# Altium schematic symbol library MainSchematics.SchLib: 12 symbols
Pins are listed as number, name and electrical type; pins without a type are passive.

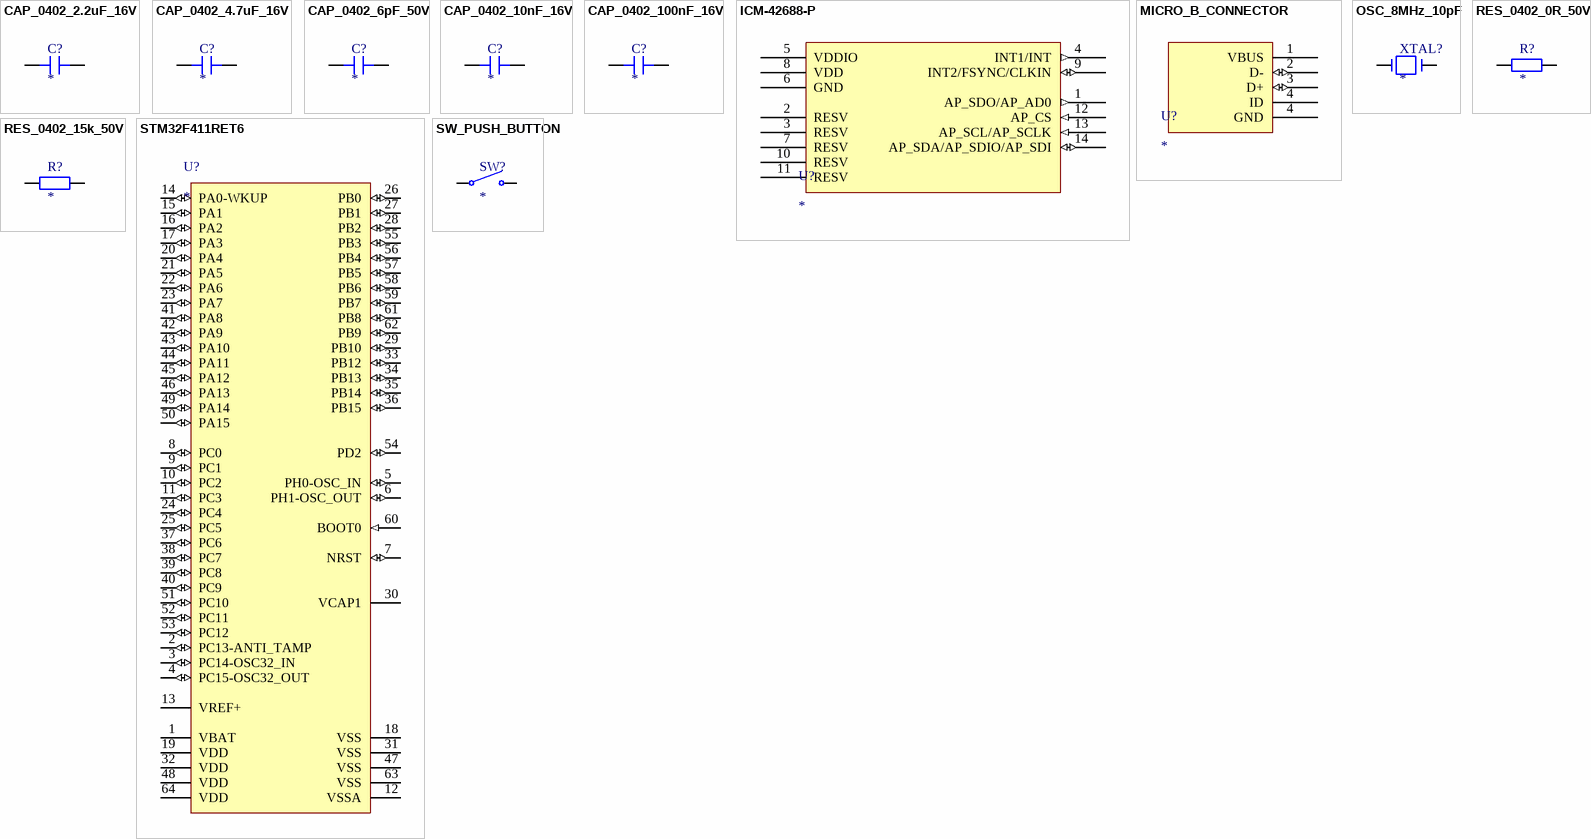
[diagram p0: symbols CAP_0402_2.2uF_16V to SW_PUSH_BUTTON]

## CAP_0402_2.2uF_16V
designator C?
pins: 1, 2

## CAP_0402_4.7uF_16V
designator C?
pins: 1, 2

## CAP_0402_6pF_50V
designator C?
pins: 1, 2

## CAP_0402_10nF_16V
designator C?
pins: 1, 2

## CAP_0402_100nF_16V
designator C?
pins: 1, 2

## ICM-42688-P
designator U?
-40℃~+85℃ 1.71V~3.6V 16bit 2KB 7.5uA IMU (accelerometer + gyroscope) SPI、I2C X,Y,Z X,Y,Z ±16g ±2000dps Motion Event Detection, Synchronization, Timestamp Support LGA-14(2.5x3) Accelerometers ROHS
pins: 1 AP_SDO/AP_AD0 (out), 2 RESV, 3 RESV, 4 INT1/INT (out), 5 VDDIO (power), 6 GND (power), 7 RESV (power), 8 VDD (power), 9 INT2/FSYNC/CLKIN (io), 10 RESV, 11 RESV, 12 AP_CS (in), 13 AP_SCL/AP_SCLK (in), 14 AP_SDA/AP_SDIO/AP_SDI (io)

## MICRO_B_CONNECTOR
designator U?
pins: 1 VBUS (power), 2 D- (io), 3 D+ (io), 4 ID (power), 4 GND (power)

## OSC_8MHz_10pF
designator XTAL?
pins: 1, 2

## RES_0402_0R_50V
designator R?
pins: 1, 2

## RES_0402_15k_50V
designator R?
pins: 1, 2

## STM32F411RET6
designator U?
-40℃~+85℃ 1.7V~3.6V 100MHz 128KB 12bit 32 Bit 50 512KB ARM Cortex-M4 Built-in FLASH LQFP-64(10x10) Microcontrollers (MCU/MPU/SOC) ROHS; Packing: Tray; Operating Frequency(F) (Processor speed) (MHz): 100; FLASH Size (Prog) (kB): 512; Supply Voltage(Vcc) min (V): 1.7; Internal RAM Size (kB): 128; I/Os (High Current): 50; ComponentLink1Description: Manufacturer URL; Package Description: LQFP64; DatasheetVersion: Rev. 6; Mounting Technology: Surface Mount; Package Reference: 64-Pin Low-profile Quad Flat Package, Body 10 x 10 mm, Pitch 0.5 mm; ComponentLink2Description: Datasheet; Core: ARM Cortex-M4; ComponentLink2URL: http://www.st.com/st-web-ui/static/active/en/resource/technical/document/datasheet/DM00115249.pdf; ComponentLink1URL: http://www.st.com/
footprint STM-LQFP64_N (QFP, 64-Leads, Body 10x10mm, Pitch 0.5mm, IPC Medium Density)
footprint STM-LQFP64_M (QFP, 64-Leads, Body 10x10mm, Pitch 0.5mm, IPC Low Density)
footprint STM-LQFP64_L (QFP, 64-Leads, Body 10x10mm, Pitch 0.5mm, IPC High Density)
pins: 1 VBAT (power), 2 PC13-ANTI_TAMP (io) "PC13-ANTI_TAMP/RTC_AMP1,RTC_OUT,RTC_TS", 3 PC14-OSC32_IN (io) "PC14/OSC32_IN", 4 PC15-OSC32_OUT (io) "PC15/OSC32_OUT", 5 PH0-OSC_IN (io) "PH0/OSC_IN", 6 PH1-OSC_OUT (io) "PH1/OSC_OUT", 7 NRST (io) "NRST/EVENTOUT", 8 PC0 (io) "PC0/EVENTOUT/ADC1_10", 9 PC1 (io) "PC1/EVENTOUT/ADC1_11", 10 PC2 (io) "PC2/SPI2_MISO,I2S2EXT_SD,EVENTOUT/ADC1_12", 11 PC3 (io) "PC3/SPI2_MOSI/I2S2_SD,EVENTOUT/ADC1_13", 12 VSSA (power), 13 VREF+ (power), 14 PA0-WKUP (io) "PA0-WKUP/TIM2_CH1/TIM2_ET,TIM5_CH1,USART2_CTS,EVENTOUT/ADC1_0,WKUP1", 15 PA1 (io) "PA1/TIM2_CH2,TIM5_CH2,SPI4_MOSI/I2S4_SD,USART2_RTS,EVENTOUT/ADC1_1", 16 PA2 (io) "PA2/TIM2_CH3,TIM5_CH3,TIM9_CH1,I2S2_CKIN,USART2_TX,EVENTOUT/ADC1_2", 17 PA3 (io) "PA3/TIM2_CH4,TIM5_CH4,TIM9_CH2,I2S2_MCK,USART2_RX,EVENTOUT/ADC1_3", 18 VSS (power), 19 VDD (power) "VDD/EVENTOUT", 20 PA4 (io) "PA4/SPI1_NSS/I2S1_WS,SPI3_NSS/I2S3_WS,USART2_CK,EVENTOUT/ADC1_4", 21 PA5 (io) "PA5/TIM2_CH1/TIM2_ET,SPI1_SCK/I2S1_CK,EVENTOUT/ADC1_5", 22 PA6 (io) "PA6/TIM1_BKIN,TIM3_CH1,SPI1_MISO,I2S2_MCK,SDIO_CMD,EVENTOUT/ADC1_6", 23 PA7 (io) "PA7/TIM1_CH1N,TIM3_CH2,SPI1_MOSI/I2S1_SD,EVENTOUT/ADC1_7", 24 PC4 (io) "PC4/EVENTOUT/ADC1_14", 25 PC5 (io) "PC5/EVENTOUT/ADC1_15", 26 PB0 (io) "PB0/TIM1_CH2N,TIM3_CH3,SPI5_SCK/I2S5_CK,EVENTOUT/ADC1_8", 27 PB1 (io) "PB1/TIM1_CH3N,TIM3_CH4,SPI5_NSS/I2S5_WS,EVENTOUT/ADC1_9", 28 PB2 (io) "PB2/EVENTOUT/BOOT1", 29 PB10 (io) "PB10/TIM2_CH3,I2C2_SCL,SPI2_SCK/I2S2_CK,I2S3_MCK,SDIO_D7,EVENTOUT", 30 VCAP1, 31 VSS (power), 32 VDD (power), 33 PB12 (io) "PB12/TIM1_BKIN,I2C2_SMBA,SPI2_NSS/I2S2_WS,SPI4_NSS/I2S4_WS,SPI3_SCK/I2S3_CK,EVENTOUT", 34 PB13 (io) "PB13/TIM1_CH1N,SPI2_SCK/I2S2_CK,SPI4_SCK/I2S4_CK,EVENTOUT", 35 PB14 (io) "PB14/TIM1_CH2N,SPI2_MISO,I2S2EXT_SD,SDIO_D6,EVENTOUT", 36 PB15 (io) "PB15/RTC_50Hz,TIM1_CH3N,SPI2_MOSI/I2S2_SD,SDIO_CK,EVENTOUT/RTC_REFIN", 37 PC6 (io) "PC6/TIM3_CH1,I2S2_MCK,USART6_TX,SDIO_D6,EVENTOUT", 38 PC7 (io) "PC7/TIM3_CH2,SPI2_SCK/I2S2_CK,I2S3_MCK,USART6_RX,SDIO_D7,EVENTOUT", 39 PC8 (io) "PC8/TIM3_CH3,USART6_CK,SDIO_D0,EVENTOUT", 40 PC9 (io) "PC9/MCO_2,TIM3_CH4,I2C3_SDA,I2S2_CKIN,SDIO_D1,EVENTOUT", 41 PA8 (io) "PA8/MCO_1,TIM1_CH1,I2C3_SCL,USART1_CK,USB_FS_SOF,SDIO_D1,EVENTOUT", 42 PA9 (io) "PA9/TIM1_CH2,I2C3_SMBA,USART1_TX,USB_FS_VBUS,SDIO_D2,EVENTOUT/OTG_FS_VBUS", 43 PA10 (io) "PA10/TIM1_CH3,SPI5_MOSI/I2S5_SD,USART1_RX,USB_FS_ID,EVENTOUT", 44 PA11 (io) "PA11/TIM1_CH4,SPI4_MISO,USART1_CTS,USART6_TX,USB_FS_DM,EVENTOUT", 45 PA12 (io) "PA12/TIM1_ETR,SPI5_MISO,USART1_RTS,USART6_RX,USB_FS_DP,EVENTOUT", 46 PA13 (io) "PA13/JTMS-SWDIO,EVENTOUT", 47 VSS (power), 48 VDD (power), 49 PA14 (io) "PA14/JTCK-SWCLK,EVENTOUT", 50 PA15 (io) "PA15/JTDI,TIM2_CH1/TIM2_ETR,SPI1_NSS/I2S1_WS,SPI3_NSS/I2S3_WS,USART1_TX,EVENTOUT", 51 PC10 (io) "PC10/SPI3_SCK/I2S3_CK,SDIO_D2,EVENTOUT", 52 PC11 (io) "PC11/I2S3EXT_SD,SPI3_MISO,SDIO_D3,EVENTOUT", 53 PC12 (io) "PC12/SPI3_MOSI/I2S3_SD,SDIO_CK,EVENTOUT", 54 PD2 (io) "PD2/TIM3_ETR,SDIO_CMD,EVENTOUT", 55 PB3 (io) "PB3/JTDO-SWO,TIM2_CH2,SPI1_SCK/I2S1_CK,SPI3_SCK/I2S3_CK,USART1_RX,I2C2_SDA,EVENTOUT", 56 PB4 (io) "PB4/JTRST,TIM3_CH1,SPI1_MISO,SPI3_MISO,I2S3EXT_SD,I2C3_SDA,SDIO_D0,EVENTOUT", 57 PB5 (io) "PB5/TIM3_CH2,I2C1_SMBA,SPI1_MOSI/I2S1_SD,SPI3_MOSI/I2S3_SD,SDIO_D3,EVENTOUT", 58 PB6 (io) "PB6/TIM4_CH1,I2C1_SCL,USART1_TX,EVENTOUT", 59 PB7 (io) "PB7/TIM4_CH2,I2C1_SDA,USART1_RX,SDIO_D0,EVENTOUT", 60 BOOT0 (in) "BOOT0/VPP", 61 PB8 (io) "PB8/TIM4_CH3,TIM10_CH1,I2C1_SCL,SPI5_MOSI/I2S5_SD,I2C3_SDA,SDIO_D4,EVENTOUT", 62 PB9 (io) "PB9/TIM4_CH4,TIM11_CH1,I2C1_SDA,SPI2_NSS/I2S2_WS,I2C2_SDA,SDIO_D5,EVENTOUT", 63 VSS (power), 64 VDD (power)

## SW_PUSH_BUTTON
designator SW?
pins: 1, 2